# EAGLE library part DRV8830 (library TinyTony_ShenzenReady)
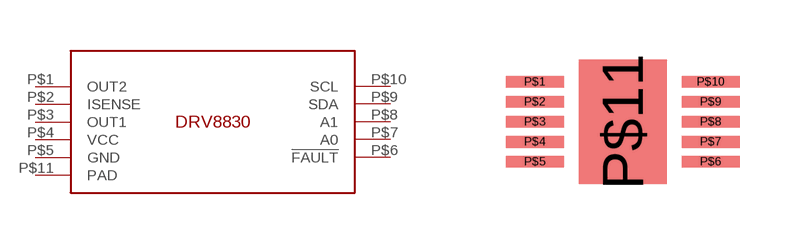
[diagram p4: symbol with the pads of DRV8830; footprint DRV8830]

Designator prefix -

## DRV8830  [DRV8830]
P$1  OUT2
P$2  ISENSE
P$3  OUT1
P$4  VCC
P$5  GND
P$6  !FAULT
P$7  A0
P$8  A1
P$9  SDA
P$10  SCL
P$11  PAD

## Footprint DRV8830 (pad centres in mm)
smd 1.45 x 0.3: P$1 -2.2,1; P$2 -2.2,0.5; P$3 -2.2,0; P$4 -2.2,-0.5; P$5 -2.2,-1; P$6 2.2,-1; P$7 2.2,-0.5; P$8 2.2,0; P$9 2.2,0.5; P$10 2.2,1
smd 2.2 x 3.1: P$11 0,0